# EAGLE library part VS1053B (library MP3)
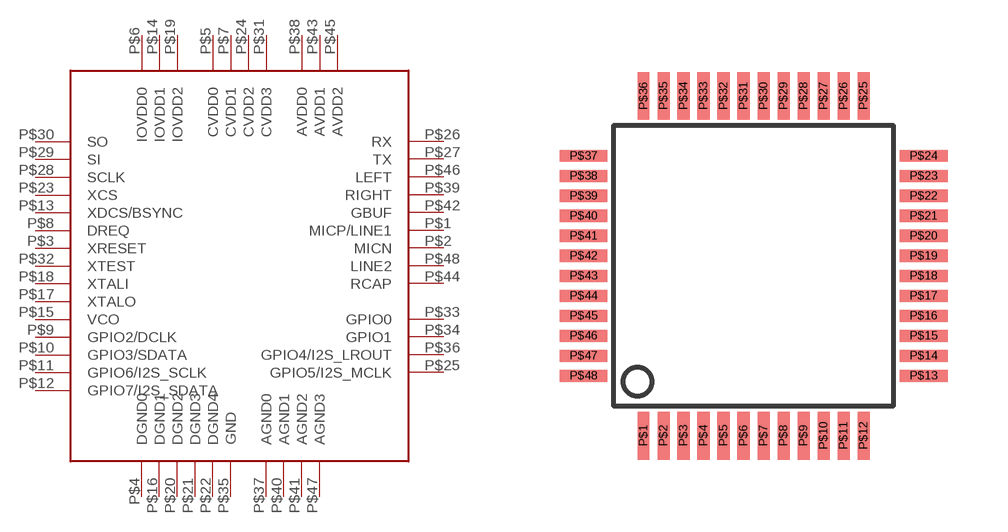
[diagram p0: symbol with the pads of LQFP48; footprint LQFP48]

Designator prefix IC

## VS1053B  [LQFP48]
P$1  MICP/LINE1
P$2  MICN
P$3  XRESET
P$4  DGND0
P$5  CVDD0
P$6  IOVDD0
P$7  CVDD1
P$8  DREQ
P$9  GPIO2/DCLK
P$10  GPIO3/SDATA
P$11  GPIO6/I2S_SCLK
P$12  GPIO7/I2S_SDATA
P$13  XDCS/BSYNC
P$14  IOVDD1
P$15  VCO
P$16  DGND1
P$17  XTALO
P$18  XTALI
P$19  IOVDD2
P$20  DGND2
P$21  DGND3
P$22  DGND4
P$23  XCS
P$24  CVDD2
P$25  GPIO5/I2S_MCLK
P$26  RX
P$27  TX
P$28  SCLK
P$29  SI
P$30  SO
P$31  CVDD3
P$32  XTEST
P$33  GPIO0
P$34  GPIO1
P$35  GND
P$36  GPIO4/I2S_LROUT
P$37  AGND0
P$38  AVDD0
P$39  RIGHT
P$40  AGND1
P$41  AGND2
P$42  GBUF
P$43  AVDD1
P$44  RCAP
P$45  AVDD2
P$46  LEFT
P$47  AGND3
P$48  LINE2

## Footprint LQFP48 (pad centres in mm)
smd 0.3 x 1.2: P$1 -2.75,-4.25; P$2 -2.25,-4.25; P$3 -1.75,-4.25; P$4 -1.25,-4.25; P$5 -0.75,-4.25; P$6 -0.25,-4.25; P$7 0.25,-4.25; P$8 0.75,-4.25; P$9 1.25,-4.25; P$10 1.75,-4.25; P$11 2.25,-4.25; P$12 2.75,-4.25; P$25 2.75,4.25; P$26 2.25,4.25; P$27 1.75,4.25; P$28 1.25,4.25; P$29 0.75,4.25; P$30 0.25,4.25; P$31 -0.25,4.25; P$32 -0.75,4.25; P$33 -1.25,4.25; P$34 -1.75,4.25; P$35 -2.25,4.25; P$36 -2.75,4.25
smd 1.2 x 0.3: P$13 4.25,-2.75; P$14 4.25,-2.25; P$15 4.25,-1.75; P$16 4.25,-1.25; P$17 4.25,-0.75; P$18 4.25,-0.25; P$19 4.25,0.25; P$20 4.25,0.75; P$21 4.25,1.25; P$22 4.25,1.75; P$23 4.25,2.25; P$24 4.25,2.75; P$37 -4.25,2.75; P$38 -4.25,2.25; P$39 -4.25,1.75; P$40 -4.25,1.25; P$41 -4.25,0.75; P$42 -4.25,0.25; P$43 -4.25,-0.25; P$44 -4.25,-0.75; P$45 -4.25,-1.25; P$46 -4.25,-1.75; P$47 -4.25,-2.25; P$48 -4.25,-2.75